# Altium schematic symbol library ITOP4412_CONVERTOR_43CLASICS_V1_5_Library.SchLib: 19 symbols
Pins are listed as number, name and electrical type; pins without a type are passive.

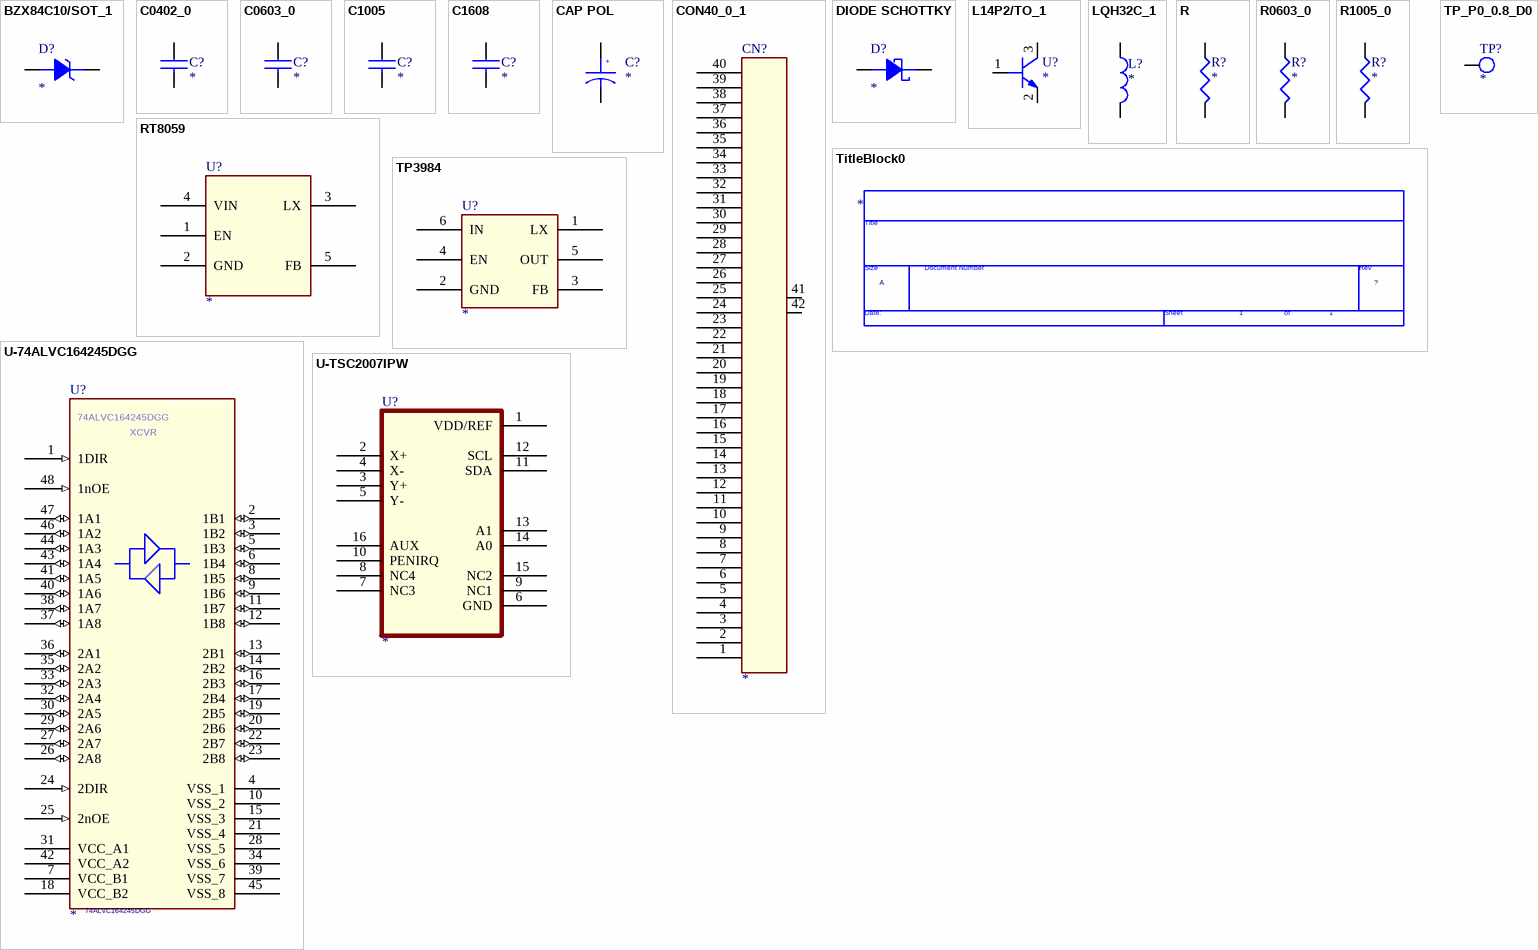
[diagram p0: symbols BZX84C10/SOT_1 to U-TSC2007IPW]

## BZX84C10/SOT_1
designator D?
pins: 1 ANODE, 2 CATHODE

## C0402_0
designator C?
footprint C0402
pins: 1, 2

## C0603_0
designator C?
footprint C0603
pins: 1, 2

## C1005
designator C?
footprint C1005
pins: 1, 2

## C1608
designator C?
footprint C1608
pins: 1, 2

## CAP POL
designator C?
pins: 1, 2
text: +

## CON40_0_1
designator CN?
footprint CON60_0_5MM
pins: 1, 2, 3, 4, 5, 6, 7, 8, 9, 10, 11, 12, 13, 14, 15, 16, 17, 18, 19, 20, 21, 22, 23, 24, 25, 26, 27, 28, 29, 30, 31, 32, 33, 34, 35, 36, 37, 38, 39, 40, 41, 42

## DIODE SCHOTTKY
designator D?
pins: 1 ANODE, 2 CATHODE

## L14P2/TO_1
designator U?
pins: 1 BASE, 2 EMITTER, 3 COLLECTOR

## LQH32C_1
designator L?
footprint LQH32C
pins: 1, 2

## R
designator R?
pins: 1, 2

## R0603_0
designator R?
footprint R0603
pins: 1, 2

## R1005_0
designator R?
footprint R1005
pins: 1, 2

## RT8059
designator U?
pins: 1 EN, 2 GND, 3 LX, 4 VIN, 5 FB

## TitleBlock0
designator *  Page Size: A  Page Number: 1  (graphical)
Page Create Date: March  8, 1995; RevCode: ?; Page Count: 1
text: Title; Size; Document Number; Rev; Date:; Sheet; of

## TP3984
designator U?
pins: 1 LX, 2 GND (power), 3 FB, 4 EN, 5 OUT, 6 IN (power)

## TP_P0_0.8_D0
designator TP?
footprint TP_08
pins: 1

## U-74ALVC164245DGG
designator U?  PART_NUMBER: 74ALVC164245DGG
ValueP: IC,16 Bit XCVR,TSSOP48; MFGR: Philips; IPN: A78685-001; DEVICE: 74ALVC164245DGG
footprint TSSOP48
pins: 1 1DIR (in), 2 1B1 (io), 3 1B2 (io), 4 VSS_1, 5 1B3 (io), 6 1B4 (io), 7 VCC_B1 (power), 8 1B5 (io), 9 1B6 (io), 10 VSS_2, 11 1B7 (io), 12 1B8 (io), 13 2B1 (io), 14 2B2 (io), 15 VSS_3, 16 2B3 (io), 17 2B4 (io), 18 VCC_B2 (power), 19 2B5 (io), 20 2B6 (io), 21 VSS_4, 22 2B7 (io), 23 2B8 (io), 24 2DIR (in), 25 2nOE (in), 26 2A8 (io), 27 2A7 (io), 28 VSS_5, 29 2A6 (io), 30 2A5 (io), 31 VCC_A1 (power), 32 2A4 (io), 33 2A3 (io), 34 VSS_6, 35 2A2 (io), 36 2A1 (io), 37 1A8 (io), 38 1A7 (io), 39 VSS_7, 40 1A6 (io), 41 1A5 (io), 42 VCC_A2 (power), 43 1A4 (io), 44 1A3 (io), 45 VSS_8, 46 1A2 (io), 47 1A1 (io), 48 1nOE (in)
text: XCVR

## U-TSC2007IPW
designator U?
footprint TSSOP16
pins: 1 VDD/REF, 2 X+, 3 Y+, 4 X-, 5 Y-, 6 GND, 7 NC3, 8 NC4, 9 NC1, 10 PENIRQ, 11 SDA, 12 SCL, 13 A1, 14 A0, 15 NC2, 16 AUX